# Altium integrated library CH28-2032.IntLib: 1 symbol
Pins are listed as number, name and electrical type; pins without a type are passive.

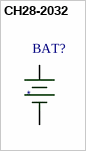
[diagram p0: symbol CH28-2032]

## CH28-2032
designator BAT?
footprint CH28-2032
pins: +, -